# Altium footprint library ON Semi General Purpose Transistors.PcbLib: 66 footprints (part 5 of 5)
Each footprint in its own frame and in the unit in brackets; x right, y up, seen from the top. Pads: shape width x height; smd on the part's side, far side on the other; paste and mask are expansions set on the pad; w line width, h text height; cw(c..) or ccw(c..) is an arc to the next point about the centre after c.
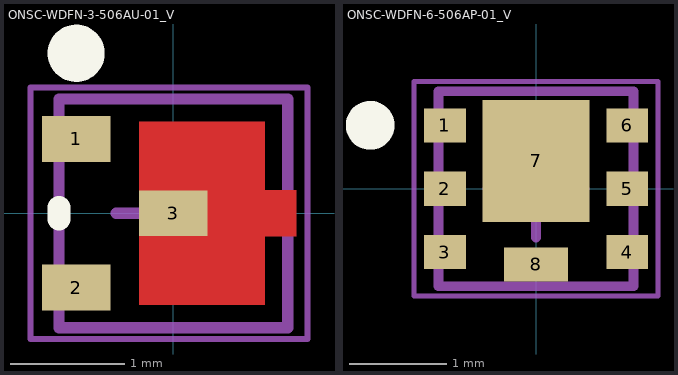
[diagram p4: the footprints below, top view; thin cyan lines are the x and y axes]

## ONSC-WDFN-3-506AU-01_V [mm] "WDFN, 3-Leads, Body 2 x 2mm, Pitch 1.3mm"
height 0.8
pads (3):
  rect 0.6x0.4 smd: 1(-0.85,0.65) 2(-0.85,-0.65) 3(0,0)
Top Layer:
  region: -0.3,-0.8 -0.3,0.8 0.8,0.8 0.8,0.2 1.075,0.2 1.075,-0.2 0.8,-0.2 0.8,-0.8
Top Overlay:
  circle w0.25: c-0.85,1.4 r0.125
  lines w0.2: -1,-0.05 -1,0.05
Top Paste:
  region: -0.3,-0.8 -0.3,0.8 0.8,0.8 0.8,0.2 1.075,0.2 1.075,-0.2 0.8,-0.2 0.8,-0.8
Mechanical 13:
  lines w0.1: -1,-1 -1,1 1,1 1,-1 -1,-1
Mechanical 15:
  lines w0.05: -1.25,-1.1 1.175,-1.1 1.175,1.1 -1.25,1.1 -1.25,-1.1
  lines w0.1: -0.5,0 0.5,0 ; 0,-0.5 0,0.5
3D body: height 0.8, standoff 0, extent -1,-1 1,1

## ONSC-WDFN-6-506AP-01_V [mm] "SON, 6-Leads, Body 2x2mm, Pitch 0.65mm"
height 0.8
pads (8):
  rect 0.43x0.35 smd: 1(-0.935,0.65) 2(-0.935,0) 3(-0.935,-0.65) 4(0.935,-0.65) 5(0.935,0) 6(0.935,0.65)
  rect 1.1x1.25 smd: 7(0,0.285)
  rect 0.66x0.35 smd: 8(0,-0.775)
Top Overlay:
  circle w0.25: c-1.7,0.65 r0.125
Mechanical 13:
  lines w0.1: -1,-1 -1,1 1,1 1,-1 -1,-1
Mechanical 15:
  lines w0.05: -1.25,-1.1 -1.25,1.1 1.25,1.1 1.25,-1.1 -1.25,-1.1
  lines w0.1: -0.5,0 0.5,0 ; 0,-0.5 0,0.5
3D body: height 0.8, standoff 0, extent -1,-1 1,1